# Altium footprint library 153.PcbLib: 1 footprints
Each footprint in its own frame and in the unit in brackets; x right, y up, seen from the top. Pads: shape width x height; smd on the part's side, far side on the other; paste and mask are expansions set on the pad; w line width, h text height; cw(c..) or ccw(c..) is an arc to the next point about the centre after c.
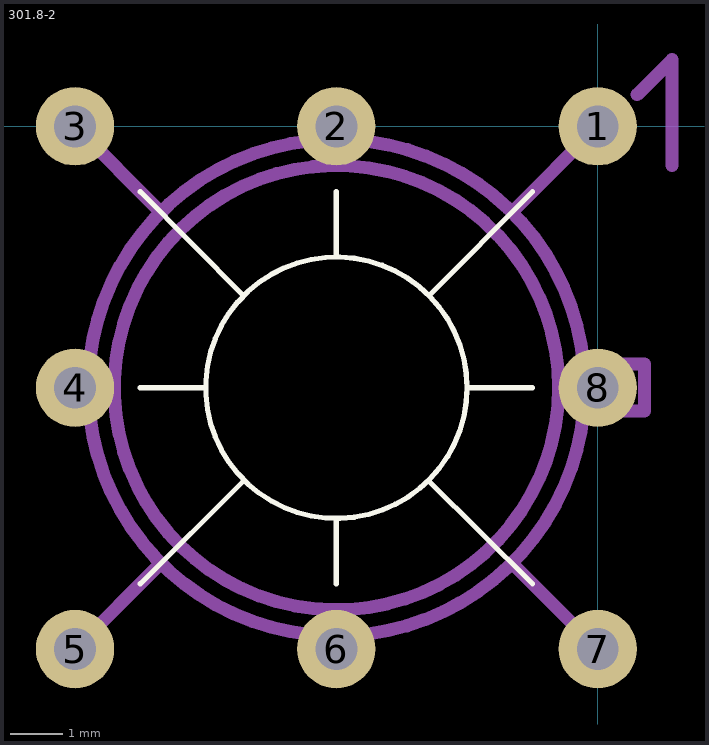
[diagram p0: the footprint, top view; thin cyan lines are the x and y axes]

## 301.8-2 [mm]
pads (8):
  round 1.5 hole 0.8: 1(0,0) 2(-5,0) 3(-10,0) 4(-10,-5) 5(-10,-10) 6(-5,-10) 7(0,-10) 8(0,-5)
Top Overlay:
  circle w0.1: c-5,-5 r2.5
  lines w0.1: -8.75,-8.75 -6.78,-6.79 ; -8.75,-5 -7.5,-5 ; -8.75,-1.25 -6.78,-3.24 ; -5,-8.75 -5,-7.5 ; -5,-2.5 -5,-1.25 ; -3.23,-6.79 -1.25,-8.75 ; -3.23,-3.24 -1.25,-1.25 ; -2.5,-5 -1.25,-5
Mechanical 1:
  circle w0.25: c-4.999,-4.999 r4.25
  lines w0.25: -9.999,-9.999 -8.357,-8.358 ; -9.999,-4.999 -9.749,-4.999 ; -9.999,0.001 -8.357,-1.64 ; -4.999,-9.999 -4.999,-9.749 ; -4.999,-0.249 -4.999,0.001 ; -1.64,-8.358 0.001,-9.999 ; -1.64,-1.64 0.001,0.001 ; -0.27,-5.454 cw(c-4.999,-4.999) -0.27,-4.552 ; -0.27,-5.449 0.891,-5.449 0.891,-4.999 0.891,-4.549 -0.27,-4.549 ; 0.756,0.606 1.425,1.275 1.425,-0.749